# Altium schematic symbol library LED_0603_YELLOW.SchLib: 1 symbol
Pins are listed as number, name and electrical type; pins without a type are passive.

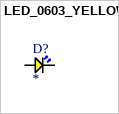
[diagram p0: symbol LED_0603_YELLOW]

## LED_0603_YELLOW
designator D?
20mA 435mcd Colorless Transparent Lens 585nm~595nm Positive Stick Yellow 120° 50mW 2.4V 0603 LED Indication - Discrete ROHS; Manufacturer: XINGLIGHT; Manufacturer Part: XL-1608UYC-06; Forward Current: 20mA; Forward Voltage: 2.4V; ComponentLink1Description: Datasheet; ComponentLink1URL: https://www.lcsc.com/datasheet/lcsc_datasheet_2504101957_XINGLIGHT-XL-1608UYC-06_C965802.pdf
footprint LED_0603_YELLOW
pins: 1, 2